# EAGLE library part GTL2003 (library SquantorNxp)
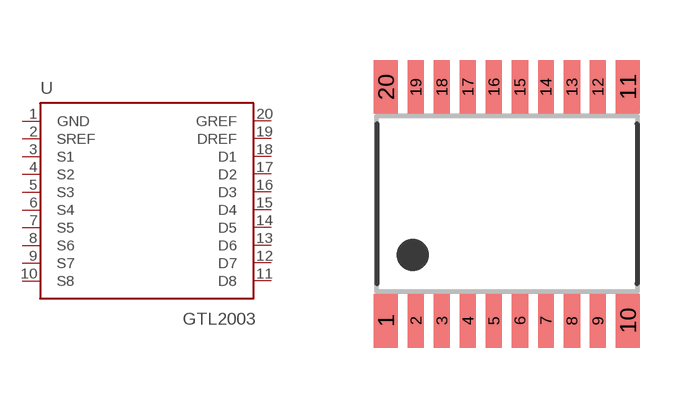
[diagram p6: symbol with the pads of SOT360; footprint SOT360]

Designator prefix -

## GTL2003PW  [SOT360]
1  GND  pwr
2  SREF
3  S1
4  S2
5  S3
6  S4
7  S5
8  S6
9  S7
10  S8
11  D8
12  D7
13  D6
14  D5
15  D4
16  D3
17  D2
18  D1
19  DREF
20  GREF

## Footprint SOT360 (pad centres in mm)
SOT360 TSSOP20: plastic thin shrink small outline package; 20 leads; body width 4.4 mm JEDEC: MO-153 IEC:
smd 0.6 x 1.35: 1 -3.025,-2.925; 10 3.025,-2.925; 11 3.025,2.925; 20 -3.025,2.925
smd 0.4 x 1.35: 2 -2.275,-2.925; 3 -1.625,-2.925; 4 -0.975,-2.925; 5 -0.325,-2.925; 6 0.325,-2.925; 7 0.975,-2.925; 8 1.625,-2.925; 9 2.275,-2.925; 12 2.275,2.925; 13 1.625,2.925; 14 0.975,2.925; 15 0.325,2.925; 16 -0.325,2.925; 17 -0.975,2.925; 18 -1.625,2.925; 19 -2.275,2.925